# Altium footprint library Flight_Computer1.PcbLib: 35 footprints (part 2 of 3)
Each footprint in its own frame and in the unit in brackets; x right, y up, seen from the top. Pads: shape width x height; smd on the part's side, far side on the other; paste and mask are expansions set on the pad; w line width, h text height; cw(c..) or ccw(c..) is an arc to the next point about the centre after c.
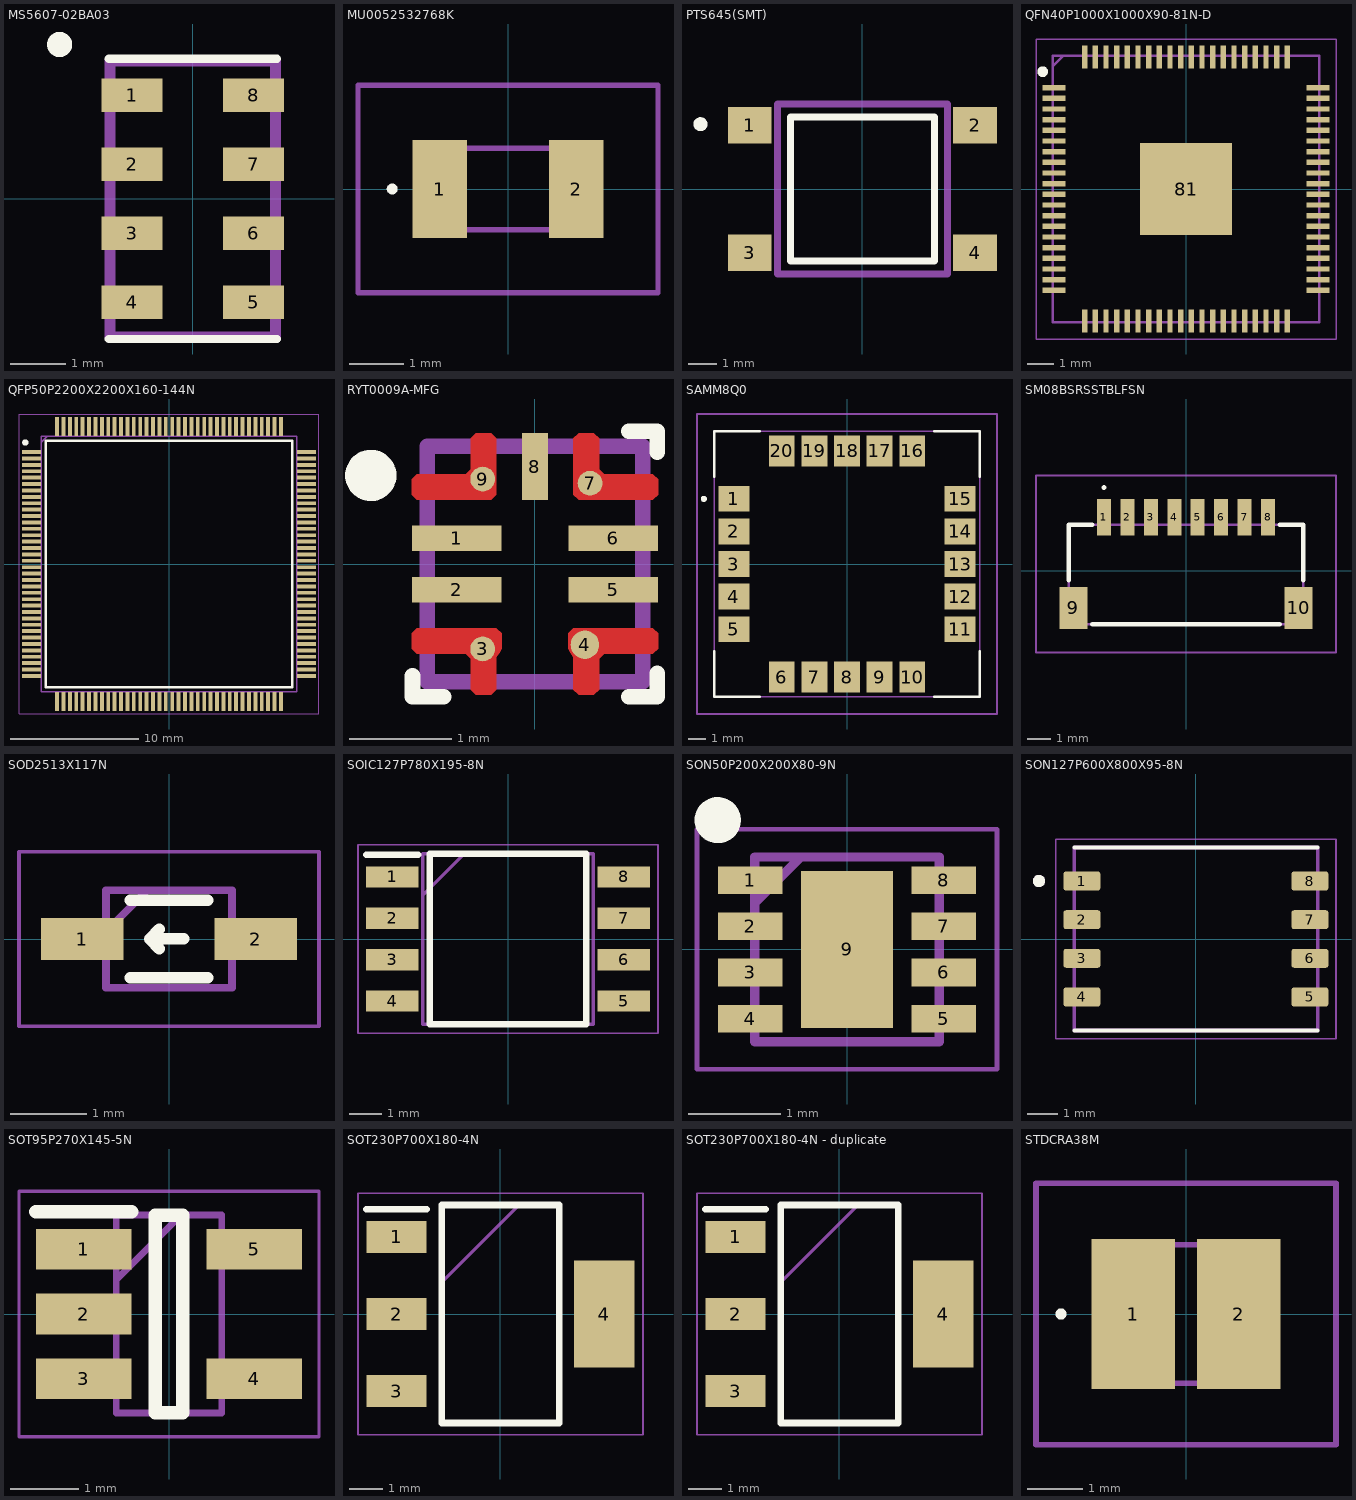
[diagram p1: the footprints below, top view; thin cyan lines are the x and y axes]

## MS5607-02BA03 [mm]
pads (8):
  rect 1.1x0.6 smd: 1(-1.1,1.875) 2(-1.1,0.625) 3(-1.1,-0.625) 4(-1.1,-1.875) 5(1.1,-1.875) 6(1.1,-0.625) 7(1.1,0.625) 8(1.1,1.875)
Top Overlay:
  circle w0.254: c-2.413,2.794 r0.1
  lines w0.152: -1.524,-2.54 1.524,-2.54 ; -1.524,2.54 1.524,2.54
Mechanical 13:
  lines w0.2: -1.5,-2.5 1.5,-2.5 1.5,2.5 -1.5,2.5 -1.5,-2.5
3D body "MS560702BA03-50.stp": height 0.95, standoff 0, extent -1.5,-2.4 1.5,2.6

## MU0052532768K [mm]
pads (2):
  rect 1x1.8 smd: 1(-1.25,0) 2(1.25,0)
Top Overlay:
  lines w0.1: -2.173,0 ccw(c-2.123,0) -2.073,0 ccw(c-2.123,0) -2.173,0
Mechanical 13:
  lines w0.1: -1.6,-0.75 -1.6,0.75 1.6,0.75 1.6,-0.75 -1.6,-0.75
Mechanical 15:
  lines w0.1: -2.75,-1.9 -2.75,1.9 2.75,1.9 2.75,-1.9 -2.75,-1.9
3D body "MU00525-32.768K.STEP": height 0.9, standoff 0, extent -1.6,-0.75 1.6,0.75

## PTS645(SMT) [mm]
pads (4):
  rect 1.55x1.3 smd: 1(-3.975,2.25) 2(3.975,2.25) 3(-3.975,-2.25) 4(3.975,-2.25)
Top Overlay:
  circle w0.254: c-5.715,2.286 r0.121
  lines w0.254: -2.54,-2.54 2.54,-2.54 2.54,2.54 -2.54,2.54 -2.54,-2.54
Mechanical 13:
  lines w0.254: -3,-3 3,-3 3,3 -3,3 -3,-3
3D body "PTS645SM43SMTR92LFS.stp": height 4.3, standoff 0, extent -4.5,-3 4.5,3

## QFN40P1000X1000X90-81N-D [mm]
pads (81):
  rect 0.85x0.2 smd: 1(-4.95,3.8) 2(-4.95,3.4) 3(-4.95,3) 4(-4.95,2.6) 5(-4.95,2.2) 6(-4.95,1.8) 7(-4.95,1.4) 8(-4.95,1) 9(-4.95,0.6) 10(-4.95,0.2) 11(-4.95,-0.2) 12(-4.95,-0.6) 13(-4.95,-1) 14(-4.95,-1.4) 15(-4.95,-1.8) 16(-4.95,-2.2) 17(-4.95,-2.6) 18(-4.95,-3) 19(-4.95,-3.4) 20(-4.95,-3.8) 41(4.95,-3.8) 42(4.95,-3.4) 43(4.95,-3) 44(4.95,-2.6) 45(4.95,-2.2) 46(4.95,-1.8) 47(4.95,-1.4) 48(4.95,-1) 49(4.95,-0.6) 50(4.95,-0.2) 51(4.95,0.2) 52(4.95,0.6) 53(4.95,1) 54(4.95,1.4) 55(4.95,1.8) 56(4.95,2.2) 57(4.95,2.6) 58(4.95,3) 59(4.95,3.4) 60(4.95,3.8)
  rect 0.2x0.85 smd: 21(-3.8,-4.95) 22(-3.4,-4.95) 23(-3,-4.95) 24(-2.6,-4.95) 25(-2.2,-4.95) 26(-1.8,-4.95) 27(-1.4,-4.95) 28(-1,-4.95) 29(-0.6,-4.95) 30(-0.2,-4.95) 31(0.2,-4.95) 32(0.6,-4.95) 33(1,-4.95) 34(1.4,-4.95) 35(1.8,-4.95) 36(2.2,-4.95) 37(2.6,-4.95) 38(3,-4.95) 39(3.4,-4.95) 40(3.8,-4.95) 61(3.8,4.95) 62(3.4,4.95) 63(3,4.95) 64(2.6,4.95) 65(2.2,4.95) 66(1.8,4.95) 67(1.4,4.95) 68(1,4.95) 69(0.6,4.95) 70(0.2,4.95) 71(-0.2,4.95) 72(-0.6,4.95) 73(-1,4.95) 74(-1.4,4.95) 75(-1.8,4.95) 76(-2.2,4.95) 77(-2.6,4.95) 78(-3,4.95) 79(-3.4,4.95) 80(-3.8,4.95)
  rect 3.45x3.45 smd: 81(0,0)
Top Overlay:
  circle w0.2: c-5.375,4.4 r0.1
Mechanical 13:
  lines w0.1: -5,4.6 -4.6,5 ; -5,-5 -5,5 5,5 5,-5 -5,-5
Mechanical 15:
  lines w0.05: -5.625,-5.625 -5.625,5.625 5.625,5.625 5.625,-5.625 -5.625,-5.625
3D body "RP2350B.stp": height 0.9, standoff 0, extent -5.05,-5.05 5.05,5.05

## QFP50P2200X2200X160-144N [mm]
pads (144):
  rect 1.475x0.3 smd: 1(-10.738,8.75) 2(-10.738,8.25) 3(-10.738,7.75) 4(-10.738,7.25) 5(-10.738,6.75) 6(-10.738,6.25) 7(-10.738,5.75) 8(-10.738,5.25) 9(-10.738,4.75) 10(-10.738,4.25) 11(-10.738,3.75) 12(-10.738,3.25) 13(-10.738,2.75) 14(-10.738,2.25) 15(-10.738,1.75) 16(-10.738,1.25) 17(-10.738,0.75) 18(-10.738,0.25) 19(-10.738,-0.25) 20(-10.738,-0.75) 21(-10.738,-1.25) 22(-10.738,-1.75) 23(-10.738,-2.25) 24(-10.738,-2.75) 25(-10.738,-3.25) 26(-10.738,-3.75) 27(-10.738,-4.25) 28(-10.738,-4.75) 29(-10.738,-5.25) 30(-10.738,-5.75) 31(-10.738,-6.25) 32(-10.738,-6.75) 33(-10.738,-7.25) 34(-10.738,-7.75) 35(-10.738,-8.25) 36(-10.738,-8.75) 73(10.738,-8.75) 74(10.738,-8.25) 75(10.738,-7.75) 76(10.738,-7.25) 77(10.738,-6.75) 78(10.738,-6.25) 79(10.738,-5.75) 80(10.738,-5.25) 81(10.738,-4.75) 82(10.738,-4.25) 83(10.738,-3.75) 84(10.738,-3.25) 85(10.738,-2.75) 86(10.738,-2.25) 87(10.738,-1.75) 88(10.738,-1.25) 89(10.738,-0.75) 90(10.738,-0.25) 91(10.738,0.25) 92(10.738,0.75) 93(10.738,1.25) 94(10.738,1.75) 95(10.738,2.25) 96(10.738,2.75) 97(10.738,3.25) 98(10.738,3.75) 99(10.738,4.25) 100(10.738,4.75) 101(10.738,5.25) 102(10.738,5.75) 103(10.738,6.25) 104(10.738,6.75) 105(10.738,7.25) 106(10.738,7.75) 107(10.738,8.25) 108(10.738,8.75)
  rect 0.3x1.475 smd: 37(-8.75,-10.738) 38(-8.25,-10.738) 39(-7.75,-10.738) 40(-7.25,-10.738) 41(-6.75,-10.738) 42(-6.25,-10.738) 43(-5.75,-10.738) 44(-5.25,-10.738) 45(-4.75,-10.738) 46(-4.25,-10.738) 47(-3.75,-10.738) 48(-3.25,-10.738) 49(-2.75,-10.738) 50(-2.25,-10.738) 51(-1.75,-10.738) 52(-1.25,-10.738) 53(-0.75,-10.738) 54(-0.25,-10.738) 55(0.25,-10.738) 56(0.75,-10.738) 57(1.25,-10.738) 58(1.75,-10.738) 59(2.25,-10.738) 60(2.75,-10.738) 61(3.25,-10.738) 62(3.75,-10.738) 63(4.25,-10.738) 64(4.75,-10.738) 65(5.25,-10.738) 66(5.75,-10.738) 67(6.25,-10.738) 68(6.75,-10.738) 69(7.25,-10.738) 70(7.75,-10.738) 71(8.25,-10.738) 72(8.75,-10.738) 109(8.75,10.738) 110(8.25,10.738) 111(7.75,10.738) 112(7.25,10.738) 113(6.75,10.738) 114(6.25,10.738) 115(5.75,10.738) 116(5.25,10.738) 117(4.75,10.738) 118(4.25,10.738) 119(3.75,10.738) 120(3.25,10.738) 121(2.75,10.738) 122(2.25,10.738) 123(1.75,10.738) 124(1.25,10.738) 125(0.75,10.738) 126(0.25,10.738) 127(-0.25,10.738) 128(-0.75,10.738) 129(-1.25,10.738) 130(-1.75,10.738) 131(-2.25,10.738) 132(-2.75,10.738) 133(-3.25,10.738) 134(-3.75,10.738) 135(-4.25,10.738) 136(-4.75,10.738) 137(-5.25,10.738) 138(-5.75,10.738) 139(-6.25,10.738) 140(-6.75,10.738) 141(-7.25,10.738) 142(-7.75,10.738) 143(-8.25,10.738) 144(-8.75,10.738)
Top Overlay:
  circle w0.25: c-11.225,9.5 r0.125
  lines w0.2: -9.65,-9.65 9.65,-9.65 9.65,9.65 -9.65,9.65 -9.65,-9.65
Mechanical 13:
  lines w0.1: -10,9.5 -9.5,10 ; -10,-10 10,-10 10,10 -10,10 -10,-10
Mechanical 15:
  lines w0.05: -11.725,-11.725 11.725,-11.725 11.725,11.725 -11.725,11.725 -11.725,-11.725
3D body "STM32F765ZIT7.stp": height 1.61, standoff 0.01, extent -11,-11 11,11

## RYT0009A-MFG [mm]
pads (9):
  rect 0.875x0.25 smd paste+0 mask+0: 1(-0.763,0.25) 2(-0.763,-0.25) 5(0.763,-0.25) 6(0.763,0.25)
  round 0.242 smd paste+0 mask+0: 3(-0.509,-0.828) 7(0.537,0.787) 9(-0.509,0.828)
  round 0.278 smd paste+0 mask+0: 4(0.487,-0.787)
  rect 0.25x0.65 smd paste+0 mask+0: 8(0,0.95)
Top Layer:
  region: -1.2,-0.675 -1.2,-0.825 -1.15,-0.875 -0.675,-0.875 -0.625,-0.925 -0.625,-1.225 -0.575,-1.275 -0.425,-1.275 -0.375,-1.225 -0.375,-0.912 -0.35,-0.868 -0.325,-0.825 -0.325,-0.675 -0.375,-0.625 -1.15,-0.625
  region: 1.2,-0.675 1.2,-0.825 1.15,-0.875 0.675,-0.875 0.625,-0.925 0.625,-1.225 0.575,-1.275 0.425,-1.275 0.375,-1.225 0.375,-0.912 0.35,-0.868 0.325,-0.825 0.325,-0.675 0.375,-0.625 1.15,-0.625
  region: 1.2,0.675 1.2,0.825 1.15,0.875 0.675,0.875 0.625,0.925 0.625,1.225 0.575,1.275 0.425,1.275 0.375,1.225 0.375,0.675 0.425,0.625 1.15,0.625
  region: -1.2,0.675 -1.2,0.825 -1.15,0.875 -0.675,0.875 -0.625,0.925 -0.625,1.225 -0.575,1.275 -0.425,1.275 -0.375,1.225 -0.375,0.675 -0.425,0.625 -1.15,0.625
Top Overlay:
  circle w0.25: c-1.6,0.864 r0.125
  lines w0.152: -1.194,-1.092 -1.194,-1.295 -0.889,-1.295 ; 0.914,-1.295 1.194,-1.295 1.194,-1.067 ; 0.914,1.295 1.194,1.295 1.194,1.092
Top Paste:
  region: -1.15,-0.875 -1.2,-0.825 -1.2,-0.675 -1.15,-0.625 -0.375,-0.625 -0.325,-0.675 -0.325,-0.825 -0.35,-0.868 -0.375,-0.912 -0.375,-1.225 -0.425,-1.275 -0.575,-1.275 -0.625,-1.225 -0.625,-0.925 -0.675,-0.875
  region: 1.2,-0.675 1.2,-0.825 1.15,-0.875 0.675,-0.875 0.625,-0.925 0.625,-1.225 0.575,-1.275 0.425,-1.275 0.375,-1.225 0.375,-0.912 0.35,-0.868 0.325,-0.825 0.325,-0.675 0.375,-0.625 1.15,-0.625
  region: 1.15,0.875 1.2,0.825 1.2,0.675 1.15,0.625 0.425,0.625 0.375,0.675 0.375,1.225 0.425,1.275 0.575,1.275 0.625,1.225 0.625,0.925 0.675,0.875
  region: -1.2,0.675 -1.2,0.825 -1.15,0.875 -0.675,0.875 -0.625,0.925 -0.625,1.225 -0.575,1.275 -0.425,1.275 -0.375,1.225 -0.375,0.675 -0.425,0.625 -1.15,0.625
Top Solder:
  region: -1.15,-0.875 -1.2,-0.825 -1.2,-0.675 -1.15,-0.625 -0.375,-0.625 -0.325,-0.675 -0.325,-0.825 -0.35,-0.868 -0.375,-0.912 -0.375,-1.225 -0.425,-1.275 -0.575,-1.275 -0.625,-1.225 -0.625,-0.925 -0.675,-0.875
  region: 1.2,-0.675 1.2,-0.825 1.15,-0.875 0.675,-0.875 0.625,-0.925 0.625,-1.225 0.575,-1.275 0.425,-1.275 0.375,-1.225 0.375,-0.912 0.35,-0.868 0.325,-0.825 0.325,-0.675 0.375,-0.625 1.15,-0.625
  region: 1.15,0.875 1.2,0.825 1.2,0.675 1.15,0.625 0.425,0.625 0.375,0.675 0.375,1.225 0.425,1.275 0.575,1.275 0.625,1.225 0.625,0.925 0.675,0.875
  region: -1.2,0.675 -1.2,0.825 -1.15,0.875 -0.675,0.875 -0.625,0.925 -0.625,1.225 -0.575,1.275 -0.425,1.275 -0.375,1.225 -0.375,0.675 -0.425,0.625 -1.15,0.625
Mechanical 13:
  lines w0.15: -1.05,-1.15 1.05,-1.15 1.05,1.15 -1.05,1.15 -1.05,-1.15
3D body "TPS62993QRYTRQ1.STEP": height 1.05, standoff 0, extent -1,-1.1 1,1.1

## SAMM8Q0 [mm]
pads (20):
  rect 1.8x1.5 smd: 1(-6.6,3.8) 2(-6.6,1.9) 3(-6.6,0) 4(-6.6,-1.9) 5(-6.6,-3.8) 11(6.6,-3.8) 12(6.6,-1.9) 13(6.6,0) 14(6.6,1.9) 15(6.6,3.8)
  rect 1.5x1.8 smd: 6(-3.8,-6.6) 7(-1.9,-6.6) 8(0,-6.6) 9(1.9,-6.6) 10(3.8,-6.6) 16(3.8,6.6) 17(1.9,6.6) 18(0,6.6) 19(-1.9,6.6) 20(-3.8,6.6)
Top Overlay:
  lines w0.152: -7.75,-5.1 -7.75,-7.75 -5.1,-7.75 ; -7.75,5.1 -7.75,7.75 -5.1,7.75 ; 5.1,-7.75 7.75,-7.75 7.75,-5.1 ; 5.1,7.75 7.75,7.75 7.75,5.1
  lines w0.254: -8.4,3.8 ccw(c-8.35,3.8) -8.3,3.8 ; -8.4,3.8 cw(c-8.35,3.8) -8.3,3.8 ; -8.4,3.8 ccw(c-8.35,3.8) -8.3,3.8
Mechanical 13:
  lines w0.1: -7.75,-7.75 -7.75,7.75 7.75,7.75 7.75,-7.75 -7.75,-7.75
Mechanical 15:
  lines w0.1: -8.75,-8.75 -8.75,8.75 8.75,8.75 8.75,-8.75 -8.75,-8.75
3D body "SAM-M8Q-0.stp": height 6.8, standoff 0, extent -7.75,-7.75 7.75,7.75

## SM08BSRSSTBLFSN [mm]
pads (10):
  rect 0.6x1.55 smd: 1(-3.5,2.288) 2(-2.5,2.288) 3(-1.5,2.288) 4(-0.5,2.288) 5(0.5,2.288) 6(1.5,2.288) 7(2.5,2.288) 8(3.5,2.288)
  rect 1.2x1.8 smd: 9(-4.8,-1.588) 10(4.8,-1.588)
Top Overlay:
  lines w0.1: -3.5,3.5 ccw(c-3.5,3.55) -3.5,3.6 ccw(c-3.5,3.55) -3.5,3.5
  lines w0.2: -5,-0.4 -5,1.962 -4,1.962 ; -4,-2.288 4,-2.288 ; 4,1.962 5,1.962 5,-0.4
Mechanical 13:
  lines w0.1: -5,-2.288 5,-2.288 5,1.962 -5,1.962 -5,-2.288
Mechanical 15:
  lines w0.1: -6.4,-3.488 6.4,-3.488 6.4,4.063 -6.4,4.063 -6.4,-3.488
3D body "SM08B-SRSS-TB_LF__SN_.stp": height 3.05, standoff 0, extent -5.28,-2.368 5.28,3.003

## SOD2513X117N [mm]
pads (2):
  rect 1.085x0.55 smd: 1(-1.14,0) 2(1.14,0)
Top Overlay:
  lines w0.152: -0.508,-0.508 0.508,-0.508 ; -0.508,0.508 0.508,0.508 ; -0.127,-0.127 -0.254,0 ; -0.127,0.127 -0.254,0 ; 0.195,0.005 -0.254,0
Mechanical 13:
  lines w0.1: -0.83,0.098 -0.288,0.64 ; -0.83,-0.64 -0.83,0.64 0.83,0.64 0.83,-0.64 -0.83,-0.64
Mechanical 15:
  lines w0.05: -1.975,-1.15 -1.975,1.15 1.975,1.15 1.975,-1.15 -1.975,-1.15
3D body "BAT60JFILM.stp": height 1.17, standoff 0, extent -1.25,-0.64 1.25,0.64

## SOIC127P780X195-8N [mm]
pads (8):
  rect 1.6x0.65 smd: 1(-3.55,1.905) 2(-3.55,0.635) 3(-3.55,-0.635) 4(-3.55,-1.905) 5(3.55,-1.905) 6(3.55,-0.635) 7(3.55,0.635) 8(3.55,1.905)
Top Overlay:
  lines w0.2: -4.35,2.58 -2.75,2.58 ; -2.4,-2.615 -2.4,2.615 2.4,2.615 2.4,-2.615 -2.4,-2.615
Mechanical 13:
  lines w0.1: -2.615,1.345 -1.345,2.615 ; -2.615,-2.615 -2.615,2.615 2.615,2.615 2.615,-2.615 -2.615,-2.615
Mechanical 15:
  lines w0.05: -4.6,-2.89 -4.6,2.89 4.6,2.89 4.6,-2.89 -4.6,-2.89
3D body "W25Q128JVSIQ_TR.stp": height 1.95, standoff 0, extent -3.9,-2.615 3.9,2.615

## SON50P200X200X80-9N [mm]
pads (9):
  rect 0.7x0.3 smd: 1(-1.05,0.75) 2(-1.05,0.25) 3(-1.05,-0.25) 4(-1.05,-0.75) 5(1.05,-0.75) 6(1.05,-0.25) 7(1.05,0.25) 8(1.05,0.75)
  rect 1x1.7 smd: 9(0,0)
Top Overlay:
  circle w0.25: c-1.4,1.4 r0.125
Mechanical 13:
  lines w0.1: -1,0.5 -0.5,1 ; -1,-1 1,-1 1,1 -1,1 -1,-1
Mechanical 15:
  lines w0.05: -1.625,-1.3 1.625,-1.3 1.625,1.3 -1.625,1.3 -1.625,-1.3
3D body "TPS62163DSGT.stp": height 0.77, standoff 0, extent -1,-1 1,1

## SON127P600X800X95-8N [mm]
height 0.95
pads (8):
  rrect25% 1.21x0.62 smd paste+0 mask+0.102: 1(-3.745,1.905) 2(-3.745,0.635) 3(-3.745,-0.635) 4(-3.745,-1.905) 5(3.745,-1.905) 6(3.745,-0.635) 7(3.745,0.635) 8(3.745,1.905)
Top Overlay:
  circle w0.2: c-5.155,1.905 r0.1
  lines w0.127: -4,-3 4,-3 ; -4,3 4,3
Mechanical 13:
  circle w0.2: c-5.155,1.905 r0.1
  lines w0.127: -4,-3 4,-3 4,3 -4,3 -4,-3
Mechanical 15:
  lines w0.05: -4.6,-3.275 4.6,-3.275 4.6,3.275 -4.6,3.275 -4.6,-3.275
3D body "step_temp.STEP": height 0.95, standoff 0, extent -4,-3 4,3

## SOT95P270X145-5N [mm]
pads (5):
  rect 1.4x0.6 smd: 1(-1.25,0.95) 2(-1.25,0) 3(-1.25,-0.95) 4(1.25,-0.95) 5(1.25,0.95)
Top Overlay:
  lines w0.2: -1.95,1.5 -0.55,1.5 ; -0.2,-1.45 0.2,-1.45 0.2,1.45 -0.2,1.45 -0.2,-1.45
Mechanical 13:
  lines w0.1: -0.775,0.5 0.175,1.45 ; -0.775,-1.45 0.775,-1.45 0.775,1.45 -0.775,1.45 -0.775,-1.45
Mechanical 15:
  lines w0.05: -2.2,-1.8 2.2,-1.8 2.2,1.8 -2.2,1.8 -2.2,-1.8
3D body "MCP6001T-I_OT.stp": height 1.45, standoff 0, extent -1.35,-1.45 1.35,1.45

## SOT230P700X180-4N [mm]
pads (4):
  rect 1.8x0.95 smd: 1(-3.1,2.3) 2(-3.1,0) 3(-3.1,-2.3)
  rect 1.8x3.2 smd: 4(3.1,0)
Top Overlay:
  lines w0.2: -4,3.125 -2.2,3.125 ; -1.75,-3.25 1.75,-3.25 1.75,3.25 -1.75,3.25 -1.75,-3.25
Mechanical 13:
  lines w0.1: -1.75,0.95 0.55,3.25 ; -1.75,-3.25 -1.75,3.25 1.75,3.25 1.75,-3.25 -1.75,-3.25
Mechanical 15:
  lines w0.05: -4.25,-3.6 4.25,-3.6 4.25,3.6 -4.25,3.6 -4.25,-3.6
3D body "TL1963A-33DCYR.stp": height 1.68, standoff 0, extent -3.5,-3.25 3.5,3.25

## SOT230P700X180-4N - duplicate [mm]
pads (4):
  rect 1.8x0.95 smd: 1(-3.1,2.3) 2(-3.1,0) 3(-3.1,-2.3)
  rect 1.8x3.2 smd: 4(3.1,0)
Top Overlay:
  lines w0.2: -4,3.125 -2.2,3.125 ; -1.75,-3.25 1.75,-3.25 1.75,3.25 -1.75,3.25 -1.75,-3.25
Mechanical 13:
  lines w0.1: -1.75,0.95 0.55,3.25 ; -1.75,-3.25 1.75,-3.25 1.75,3.25 -1.75,3.25 -1.75,-3.25
Mechanical 15:
  lines w0.05: -4.25,-3.6 4.25,-3.6 4.25,3.6 -4.25,3.6 -4.25,-3.6
3D body "TL1963A-33DCYR.stp": height 1.68, standoff 0, extent -3.5,-3.25 3.5,3.25

## STDCRA38M [mm]
pads (2):
  rect 1.5x2.7 smd: 1(-0.95,0) 2(0.95,0)
Top Overlay:
  lines w0.1: -2.3,0 ccw(c-2.25,0) -2.2,0 ccw(c-2.25,0) -2.3,0
Mechanical 13:
  lines w0.1: -1.6,-1.25 -1.6,1.25 1.6,1.25 1.6,-1.25 -1.6,-1.25
Mechanical 15:
  lines w0.1: -2.7,-2.35 -2.7,2.35 2.7,2.35 2.7,-2.35 -2.7,-2.35
3D body "XTAL_NX3225GD-8MHZ-STD-CRA-3_NDK.step": height 0.99, standoff 0, extent -1.651,-1.295 1.651,1.295